# Altium footprint library CONN_USB.PcbLib: 34 footprints (part 3 of 3)
Each footprint in its own frame and in the unit in brackets; x right, y up, seen from the top. Pads: shape width x height; smd on the part's side, far side on the other; paste and mask are expansions set on the pad; w line width, h text height; cw(c..) or ccw(c..) is an arc to the next point about the centre after c.
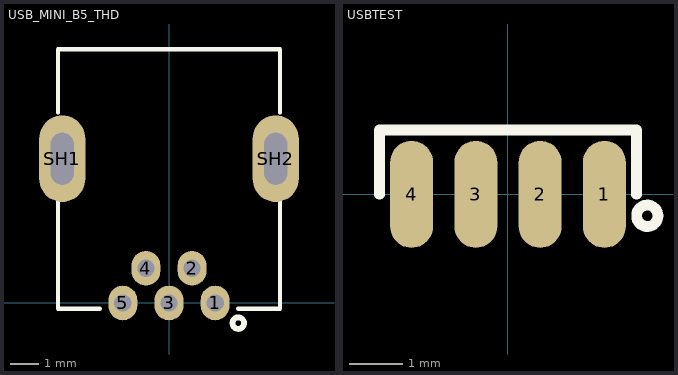
[diagram p2: the footprints below, top view; thin cyan lines are the x and y axes]

## USB_MINI_B5_THD [mm] "CONN, USB MINI B, 5PIN, RIGHT ANGLE, THD"
pads (7):
  oval 1x1.2 hole 0.6 mask+0.075: 1(1.6,0) 2(0.8,1.2) 3(0,0) 4(-0.8,1.2) 5(-1.6,0)
  oval 1.6x3 hole 0.8 slot 1.8 at 90 deg: SH1(-3.7,5) SH2(3.7,5)
Top Overlay:
  circle w0.2: c2.4,-0.7 r0.2
  lines w0.15: -3.85,3.5 -3.85,-0.2 -2.4,-0.2 ; -3.85,6.6 -3.85,8.8 3.85,8.8 3.85,6.6 ; 2.4,-0.2 3.85,-0.2 3.85,3.5
3D body "5877.STEP": height 3.95, standoff -1.8, extent -3.85,-0.2 3.85,8.8
3D body "Samtec-DEFAULT.STEP": height 5.8, standoff -1.8, extent -5.212,2.24 5.588,48.84

## USBTEST [mm] "CONN, USB A Receptacle RIGHT ANGLE"
height 7
pads (4):
  oval 0.8x2 smd mask+0.1: 1(1.8,0) 2(0.6,0) 3(-0.6,0) 4(-1.8,0)
Top Overlay:
  circle w0.2: c2.6,-0.4 r0.2
  lines w0.2: -2.4,0 -2.4,1.2 2.4,1.2 2.4,0